# Altium schematic symbol library Sensor_Proximity.SchLib: 29 symbols
Pins are listed as number, name and electrical type; pins without a type are passive.

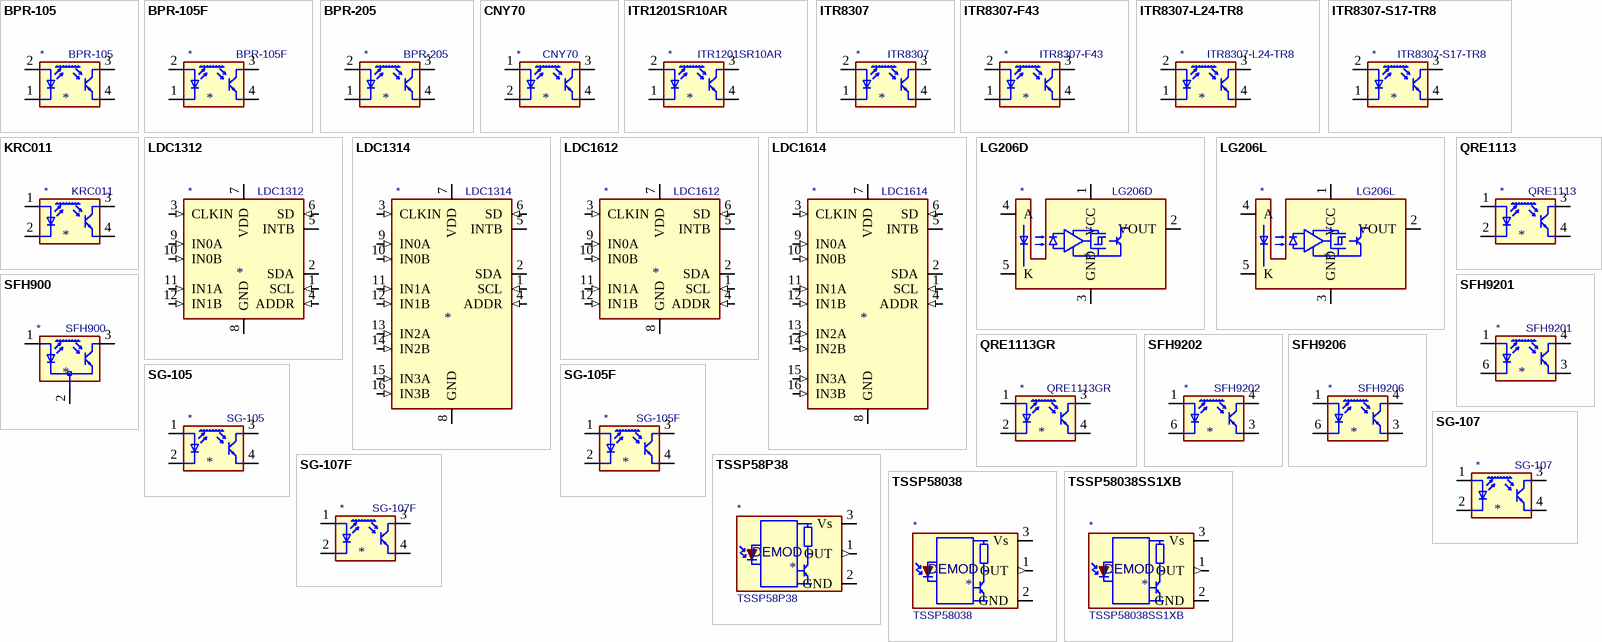
[diagram p0: symbols BPR-105 to TSSP58038SS1XB]

## BPR-105
designator *  value BPR-105
ki_keywords: Reflective Optical Sensor Opto; ki_description: Subminiature Reflective Optical Sensor, SMD-package with PCB-cutout; ki_fp_filters: Everlight*ITR8307*; Footprint: OptoDevice:Everlight_ITR8307; Supplier: http://www.ystone.com.tw/en/data/goods/IRPT/Photo%20Interrupters-Reflective%20Type.pdf
footprint Everlight_ITR8307
pins: 1 K, 2 A, 3 C (oc), 4 E (oe)

## BPR-105F
designator *  value BPR-105F
ki_keywords: Reflective Optical Sensor Opto; ki_description: Subminiature Reflective Optical Sensor, DIP-like THT-package; ki_fp_filters: Everlight*ITR8307F43*; Footprint: OptoDevice:Everlight_ITR8307F43; Supplier: http://www.ystone.com.tw/en/data/goods/IRPT/Photo%20Interrupters-Reflective%20Type.pdf
footprint Everlight_ITR8307F43
pins: 1 K, 2 A, 3 C (oc), 4 E (oe)

## BPR-205
designator *  value BPR-205
ki_keywords: Reflective Optical Sensor Opto; ki_description: Subminiature Reflective Optical Sensor, Darlington photo transistor, SMD-package with PCB-cutout; ki_fp_filters: Everlight*ITR8307*; Footprint: OptoDevice:Everlight_ITR8307; Supplier: http://www.ystone.com.tw/en/data/goods/IRPT/Photo%20Interrupters-Reflective%20Type.pdf
footprint Everlight_ITR8307
pins: 1 K, 2 A, 3 C (oc), 4 E (oe)

## CNY70
designator *  value CNY70
ki_keywords: Reflective Optical Sensor Opto; ki_description: Reflective Optical Sensor with Transistor Output; ki_fp_filters: Vishay*CNY70*; Footprint: OptoDevice:Vishay_CNY70; Supplier: https://www.vishay.com/docs/83751/cny70.pdf
footprint Vishay_CNY70
pins: 1 A, 2 K, 3 C (oc), 4 E (oe)

## ITR1201SR10AR
designator *  value ITR1201SR10AR
ki_keywords: Reflective Optical Sensor Opto reflex coupler; ki_description: Miniature Reflective Optical Object Sensor, SMD-4; ki_fp_filters: Everlight*ITR1201SR10AR*; Footprint: OptoDevice:Everlight_ITR1201SR10AR; Supplier: http://www.everlight.com/file/ProductFile/ITR1201SR10AR-TR.pdf
footprint Everlight_ITR1201SR10AR
pins: 1 K, 2 A, 3 (oc), 4 (oe)

## ITR8307
designator *  value ITR8307
ki_keywords: Reflective Optical Sensor Opto; ki_description: Subminiature Reflective Optical Sensor, SMD-package with PCB-cutout; ki_fp_filters: Everlight*ITR8307*; Footprint: OptoDevice:Everlight_ITR8307; Supplier: http://www.everlight.com/file/ProductFile/ITR8307.pdf
footprint Everlight_ITR8307
pins: 1 K, 2 A, 3 C (oc), 4 E (oe)

## ITR8307-F43
designator *  value ITR8307-F43
ki_keywords: Reflective Optical Sensor Opto; ki_description: Subminiature Reflective Optical Sensor, DIP-like THT-package; ki_fp_filters: Everlight*ITR8307F43*; Footprint: OptoDevice:Everlight_ITR8307F43; Supplier: https://everlighteurope.com/index.php?controller=attachment&id_attachment=5385
footprint Everlight_ITR8307F43
pins: 1 K, 2 A, 3 C (oc), 4 E (oe)

## ITR8307-L24-TR8
designator *  value ITR8307-L24-TR8
ki_keywords: Reflective Optical Sensor Opto reflex coupler; ki_description: Miniature Reflective Optical Object Sensor, SMD-4; ki_fp_filters: Everlight*ITR1201SR10AR*; Footprint: OptoDevice:Everlight_ITR1201SR10AR; Supplier: https://www.everlight.com/file/ProductFile/ITR8307-L24-TR8.pdf
footprint Everlight_ITR1201SR10AR
pins: 1 K, 2 A, 3 (oc), 4 (oe)

## ITR8307-S17-TR8
designator *  value ITR8307-S17-TR8
ki_keywords: Reflective Optical Sensor Opto reflex coupler; ki_description: Miniature Reflective Optical Object Sensor, SMD-4; ki_fp_filters: Everlight*ITR1201SR10AR*; Footprint: OptoDevice:Everlight_ITR1201SR10AR; Supplier: https://datasheet.lcsc.com/szlcsc/1810010232_Everlight-Elec-ITR8307-S17-TR8-B_C81632.pdf
footprint Everlight_ITR1201SR10AR
pins: 1 K, 2 A, 3 (oc), 4 (oe)

## KRC011
designator *  value KRC011
ki_keywords: Reflective Optical Sensor Opto; ki_description: Subminiature Reflective Optical Sensor; ki_fp_filters: Kingbright?KRC011*; Footprint: OptoDevice:Kingbright_KRC011_Vertical; Supplier: http://www.kingbright.com/attachments/file/psearch/000/00/00/KRC011(Ver.15).pdf
footprint Kingbright_KRC011_Vertical
pins: 1 A, 2 K, 3 C (oc), 4 E (oe)

## LDC1312
designator *  value LDC1312
ki_keywords: inductance sensor; ki_description: Inductance to digital converter, 2-channel 12-bit, WSON-12; ki_fp_filters: WSON*1EP*4x4mm*P0.5mm*; Footprint: Package_SON:WSON-12-1EP_4x4mm_P0.5mm_EP2.6x3mm_ThermalVias; Supplier: http://www.ti.com/lit/ds/symlink/ldc1312.pdf
footprint WSON-12-1EP_4x4mm_P0.5mm_EP2.6x3mm_ThermalVias
pins: 1 SCL (in), 2 SDA (io), 3 CLKIN (in), 4 ADDR (in), 5 INTB (oc), 6 SD (in), 7 VDD (power), 8 GND (power), 9 IN0A (in), 10 IN0B (in), 11 IN1A (in), 12 IN1B (in), 13 GND hidden

## LDC1314
designator *  value LDC1314
ki_keywords: inductance sensor; ki_description: Inductance to digital converter, 4-channel 12-bit, WQFN-16; ki_fp_filters: WQFN*1EP*4x4mm*P0.5mm*; Footprint: Package_DFN_QFN:WQFN-16-1EP_4x4mm_P0.5mm_EP2.6x2.6mm_ThermalVias; Supplier: http://www.ti.com/lit/ds/symlink/ldc1312.pdf
footprint WQFN-16-1EP_4x4mm_P0.5mm_EP2.6x2.6mm_ThermalVias
pins: 1 SCL (in), 2 SDA (io), 3 CLKIN (in), 4 ADDR (in), 5 INTB (oc), 6 SD (in), 7 VDD (power), 8 GND (power), 9 IN0A (in), 10 IN0B (in), 11 IN1A (in), 12 IN1B (in), 13 IN2A (in), 14 IN2B (in), 15 IN3A (in), 16 IN3B (in), 17 GND hidden

## LDC1612
designator *  value LDC1612
ki_keywords: inductance sensor; ki_description: Inductance to digital converter, 2-channel 28-bit, WSON-12; ki_fp_filters: WSON*1EP*4x4mm*P0.5mm*; Footprint: Package_SON:WSON-12-1EP_4x4mm_P0.5mm_EP2.6x3mm_ThermalVias; Supplier: http://www.ti.com/lit/ds/symlink/ldc1612.pdf
footprint WSON-12-1EP_4x4mm_P0.5mm_EP2.6x3mm_ThermalVias
pins: 1 SCL (in), 2 SDA (io), 3 CLKIN (in), 4 ADDR (in), 5 INTB (oc), 6 SD (in), 7 VDD (power), 8 GND (power), 9 IN0A (in), 10 IN0B (in), 11 IN1A (in), 12 IN1B (in), 13 GND hidden

## LDC1614
designator *  value LDC1614
ki_keywords: inductance sensor; ki_description: Inductance to digital converter, 4-channel 28-bit, WQFN-16; ki_fp_filters: WQFN*1EP*4x4mm*P0.5mm*; Footprint: Package_DFN_QFN:WQFN-16-1EP_4x4mm_P0.5mm_EP2.6x2.6mm_ThermalVias; Supplier: http://www.ti.com/lit/ds/symlink/ldc1612.pdf
footprint WQFN-16-1EP_4x4mm_P0.5mm_EP2.6x2.6mm_ThermalVias
pins: 1 SCL (in), 2 SDA (io), 3 CLKIN (in), 4 ADDR (in), 5 INTB (oc), 6 SD (in), 7 VDD (power), 8 GND (power), 9 IN0A (in), 10 IN0B (in), 11 IN1A (in), 12 IN1B (in), 13 IN2A (in), 14 IN2B (in), 15 IN3A (in), 16 IN3B (in), 17 GND hidden

## LG206D
designator *  value LG206D
ki_keywords: Photointerrupter infrared LED with photo IC, non-inverting output, -0.5V to 17V VDD, -20 to +85 degree Celsius, LG206D; ki_fp_filters: Kodenshi?LG206D*; Footprint: OptoDevice:Kodenshi_LG206D; Supplier: http://kodenshi.co.jp/products/pdf/sensor/photointerrupter_ic/LG206D.pdf; ki_description: Photointerrupter infrared LED with photo IC, non-inverting output, -0.5V to 17V VDD, -20 to +85 degree Celsius, LG206D
footprint Kodenshi_LG206D
pins: 1 VCC (power), 2 VOUT (oc), 3 GND (power), 4 A, 5 K

## LG206L
designator *  value LG206L
ki_keywords: Photointerrupter infrared LED with photo IC, inverting output, -0.5V to 17V VDD, -20 to +85 degree Celsius, LG206X; ki_fp_filters: Kodenshi?LG206L*; Footprint: OptoDevice:Kodenshi_LG206L; Supplier: http://kodenshi.co.jp/products/pdf/sensor/photointerrupter_ic/LG206L.pdf; ki_description: Photointerrupter infrared LED with photo IC, inverting output, -0.5V to 17V VDD, -20 to +85 degree Celsius, LG206X
footprint Kodenshi_LG206L
pins: 1 VCC (power), 2 VOUT (oc), 3 GND (power), 4 A, 5 K

## QRE1113
designator *  value QRE1113
ki_keywords: Reflective Optical Sensor Opto reflex coupler; ki_description: Miniature Reflective Optical Object Sensor, DIP-like THT-package; ki_fp_filters: OnSemi*CASE100AQ*; Footprint: OptoDevice:OnSemi_CASE100AQ; Supplier: http://www.onsemi.com/pub/Collateral/QRE1113-D.PDF
footprint OnSemi_CASE100AQ
pins: 1 A, 2 K, 3 (oc), 4 (oe)

## QRE1113GR
designator *  value QRE1113GR
ki_keywords: Reflective Optical Sensor Opto reflex coupler; ki_description: Miniature Reflective Optical Object Sensor, SMD-4; ki_fp_filters: OnSemi*CASE100CY*; Footprint: OptoDevice:OnSemi_CASE100CY; Supplier: http://www.onsemi.com/pub/Collateral/QRE1113-D.PDF
footprint OnSemi_CASE100CY
pins: 1 A, 2 K, 3 (oc), 4 (oe)

## SFH900
designator *  value SFH900
ki_keywords: Reflective Optical Sensor Opto; ki_description: Miniature Light Reflection Switches; ki_fp_filters: Siemens*SFH900*; Footprint: OptoDevice:Siemens_SFH900; Supplier: https://www.batronix.com/pdf/sfh900.pdf
footprint Siemens_SFH900
pins: 1 A, 2 K, 3 C (oc)

## SFH9201
designator *  value SFH9201
ki_keywords: Reflective Opto Interrupter Coupler; ki_description: Reflective Opto Interrupter/Coupler, SMD-6; ki_fp_filters: Osram*SFH9x0x*; Footprint: OptoDevice:Osram_SFH9x0x; Supplier: https://media.digikey.com/pdf/Data%20Sheets/Osram%20PDFs/SFH_9201.pdf
footprint Osram_SFH9x0x
pins: 1 A, 2 NC (in) hidden, 3 E (oe), 4 C (oc), 5 NC (in) hidden, 6 K

## SFH9202
designator *  value SFH9202
ki_keywords: Reflective Opto Interrupter Coupler; ki_description: Reflective Opto Interrupter/Coupler, SMD-6; ki_fp_filters: Osram*SFH9x0x*; Footprint: OptoDevice:Osram_SFH9x0x; Supplier: http://www.osram-os.com/Graphics/XPic0/00083379_0.pdf/SFH%209202,%20Lead%20%28Pb%29%20Free%20Product%20-%20RoHS%20Compliant.pdf
footprint Osram_SFH9x0x
pins: 1 A, 2 NC (in) hidden, 3 E (oe), 4 C (oc), 5 NC (in) hidden, 6 K

## SFH9206
designator *  value SFH9206
ki_keywords: Reflective Opto Interrupter Coupler; ki_description: Reflective Opto Interrupter/Coupler, SMD-6; ki_fp_filters: Osram*SFH9x0x*; Footprint: OptoDevice:Osram_SFH9x0x; Supplier: http://www.osram-os.com/Graphics/XPic6/00200860_0.pdf
footprint Osram_SFH9x0x
pins: 1 A, 2 NC (in) hidden, 3 E (oe), 4 C (oc), 5 NC (in) hidden, 6 K

## SG-105
designator *  value SG-105
ki_keywords: Reflective Optical Sensor Opto; ki_description: Subminiature Reflective Optical Sensor, SMD-package with PCB-cutout; ki_fp_filters: Kodenshi*SG105*; Footprint: OptoDevice:Kodenshi_SG105; Supplier: http://www.kodenshi.co.jp/products/pdf/sensor/photointerrupter_ref/SG-105.pdf
footprint Kodenshi_SG105
pins: 1 A, 2 K, 3 C (oc), 4 E (oe)

## SG-105F
designator *  value SG-105F
ki_keywords: Reflective Optical Sensor Opto; ki_description: Subminiature Reflective Optical Sensor, DIP-lie THT-package; ki_fp_filters: Kodenshi*SG105F*; Footprint: OptoDevice:Kodenshi_SG105F; Supplier: http://www.kodenshi.co.jp/products/pdf/sensor/photointerrupter_ref/SG-105F.pdf
footprint Kodenshi_SG105F
pins: 1 A, 2 K, 3 C (oc), 4 E (oe)

## SG-107
designator *  value SG-107
ki_keywords: Reflective Optical Sensor Opto; ki_description: Subminiature Reflective Optical Sensor, SMD-package with PCB-cutout; ki_fp_filters: Kodenshi*SG105*; Footprint: OptoDevice:Kodenshi_SG105; Supplier: http://www.kodenshi.co.jp/products/pdf/sensor/photointerrupter_ref/SG-107.pdf
footprint Kodenshi_SG105
pins: 1 A, 2 K, 3 C (oc), 4 E (oe)

## SG-107F
designator *  value SG-107F
ki_keywords: Reflective Optical Sensor Opto; ki_description: Subminiature Reflective Optical Sensor, DIP-lie THT-package; ki_fp_filters: Kodenshi*SG105F*; Footprint: OptoDevice:Kodenshi_SG105F; Supplier: https://www.pacer.co.uk/Assets/User/1055-SG-107F.pdf
footprint Kodenshi_SG105F
pins: 1 A, 2 K, 3 C (oc), 4 E (oe)

## TSSP58P38
designator *  value TSSP58P38
ki_keywords: opto IR receiver; ki_description: Photo Modules for PCM Remote Control Systems; ki_fp_filters: Vishay*MINICAST*; Footprint: OptoDevice:Vishay_MINICAST-3Pin; Supplier: http://www.vishay.com/docs/82462/tsop581.pdf
footprint Vishay_MINICAST-3Pin
pins: 1 OUT (out), 2 GND (power), 3 Vs (power)
text: DEMOD

## TSSP58038
designator *  value TSSP58038
ki_keywords: opto IR receiver proximity sensor; ki_description: IR Detector for Mid Range Proximity Sensor; ki_fp_filters: Vishay*MINICAST*; Footprint: OptoDevice:Vishay_MINICAST-3Pin; Supplier: http://www.vishay.com/docs/82476/tssp58p38.pdf
footprint Vishay_MINICAST-3Pin
pins: 1 OUT (out), 2 GND (power), 3 Vs (power)
text: DEMOD

## TSSP58038SS1XB
designator *  value TSSP58038SS1XB
ki_keywords: opto IR receiver light barrier; ki_description: IR Receiver Module for Light Barrier Systems; ki_fp_filters: Vishay*MINICAST*; Footprint: OptoDevice:Vishay_MINICAST-3Pin; Supplier: http://www.vishay.com/docs/82740/tssp58038ss1xb.pdf
footprint Vishay_MINICAST-3Pin
pins: 1 OUT (out), 2 GND (power), 3 Vs (power)
text: DEMOD